# Altium footprint library PcbLib1.PcbLib: 27 footprints (part 2 of 2)
Each footprint in its own frame and in the unit in brackets; x right, y up, seen from the top. Pads: shape width x height; smd on the part's side, far side on the other; paste and mask are expansions set on the pad; w line width, h text height; cw(c..) or ccw(c..) is an arc to the next point about the centre after c.
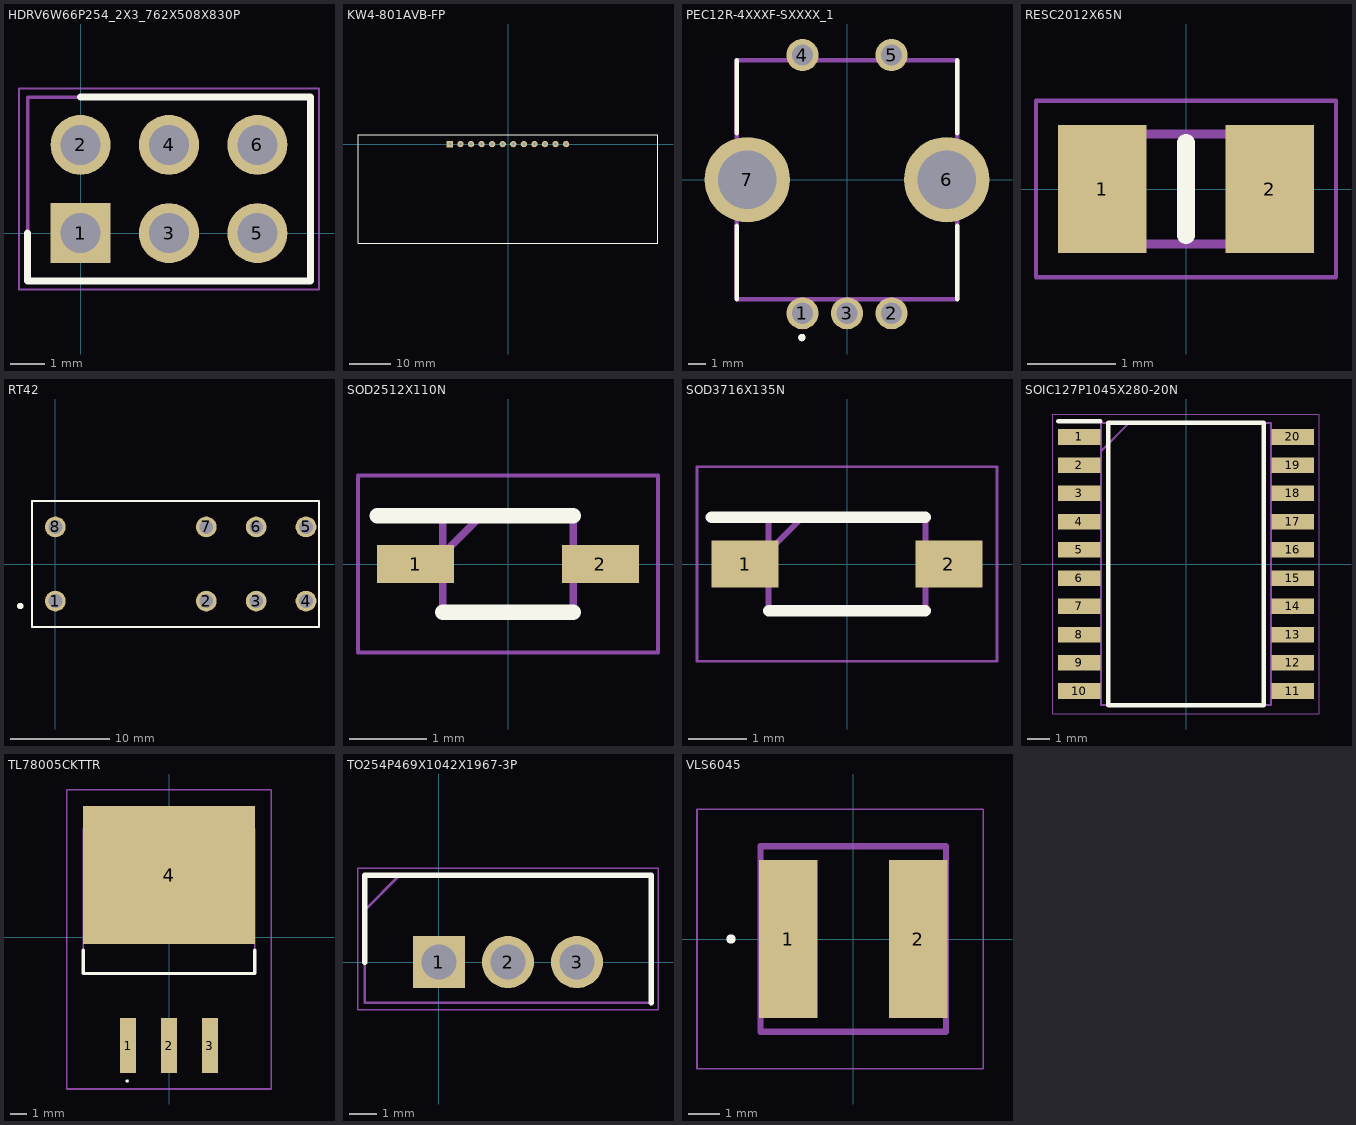
[diagram p1: the footprints below, top view; thin cyan lines are the x and y axes]

## HDRV6W66P254_2X3_762X508X830P [mm]
pads (6):
  rect 1.725x1.725 hole 1.15: 1(0,0)
  round 1.725 hole 1.15: 2(0,2.54) 3(2.54,0) 4(2.54,2.54) 5(5.08,0) 6(5.08,2.54)
Top Overlay:
  lines w0.2: -1.52,0 -1.52,-1.37 6.6,-1.37 6.6,3.91 0,3.91
Mechanical 13:
  lines w0.1: -1.52,-1.37 6.6,-1.37 6.6,3.91 -1.52,3.91 -1.52,-1.37
Mechanical 15:
  lines w0.05: -1.77,-1.62 6.85,-1.62 6.85,4.16 -1.77,4.16 -1.77,-1.62
3D body "M20-9760342.stp": height 8.38, standoff -3.1, extent -1.27,-1.27 6.35,3.81

## KW4-801AVB-FP [mil]
pads (12):
  rect 60x60 hole 30: 1(-550,0)
  round 60 hole 30: 2(-450,0) 3(-350,0) 4(-250,0) 5(-150,0) 6(-50,0) 7(50,0) 8(150,0) 9(250,0) 10(350,0) 11(450,0) 12(550,0)
Top Overlay:
  lines w10: -1420,-940 -1420,90 1420,90 1420,-940 -1420,-940
3D body: height 334.65, standoff 0, extent -1415,-935 1415,85

## PEC12R-4XXXF-SXXXX_1 [mm]
pads (7):
  round 1.8 hole 1.2: 1(-2.5,-7.5) 2(2.5,-7.5) 3(0,-7.5) 4(-2.5,7) 5(2.5,7)
  round 4.8 hole 3.28: 6(5.6,0) 7(-5.6,0)
Top Overlay:
  circle w0.254: c-2.533,-8.863 r0.082
  lines w0.254: -6.2,-6.7 -6.2,-2.6 ; -6.2,2.6 -6.2,6.7 ; 6.2,-6.7 6.2,-2.6 ; 6.2,2.6 6.2,6.7
Mechanical 13:
  lines w0.254: -6.2,-6.7 6.2,-6.7 6.2,6.7 -6.2,6.7 -6.2,-6.7
3D body "PEC11R-4225F-S0024.stp": height 31.51, standoff -3.69, extent -7.005,-7.751 6.995,7.149

## RESC2012X65N [mm]
pads (2):
  rect 1x1.45 smd: 1(-0.95,0) 2(0.95,0)
Top Overlay:
  lines w0.2: 0,-0.525 0,0.525
Mechanical 13:
  lines w0.1: -1,-0.625 1,-0.625 1,0.625 -1,0.625 -1,-0.625
Mechanical 15:
  lines w0.05: -1.7,-1 1.7,-1 1.7,1 -1.7,1 -1.7,-1
3D body "CPF0805B100RE1.stp": height 0.65, standoff 0, extent -1,-0.625 1,0.625

## RT42 [mm]
pads (8):
  round 2.1 hole 1.4: 1(0,-3.75) 2(15.26,-3.75) 3(20.3,-3.75) 4(25.34,-3.75) 5(25.34,3.75) 6(20.3,3.75) 7(15.26,3.75) 8(0,3.75)
Top Overlay:
  circle w0.4: c-3.547,-4.246 r0.126
  lines w0.2: -2.35,-6.35 26.65,-6.35 26.65,6.35 -2.35,6.35 -2.35,-6.35
Mechanical 13:
  lines w0.2: -2.35,-6.35 26.65,-6.35 26.65,6.35 -2.35,6.35 -2.35,-6.35
3D body "RT424005.stp": height 15.86, standoff -2.94, extent -2.21,-6.35 26.79,6.35

## SOD2512X110N [mm]
pads (2):
  rect 1x0.5 smd: 1(-1.2,0) 2(1.2,0)
Top Overlay:
  lines w0.2: -1.7,0.625 0.85,0.625 ; -0.85,-0.625 0.85,-0.625
Mechanical 13:
  lines w0.1: -0.85,0.125 -0.35,0.625 ; -0.85,-0.625 -0.85,0.625 0.85,0.625 0.85,-0.625 -0.85,-0.625
Mechanical 15:
  lines w0.05: -1.95,-1.15 -1.95,1.15 1.95,1.15 1.95,-1.15 -1.95,-1.15
3D body "SMMDL914T1G.stp": height 1.1, standoff 0, extent -1.25,-0.625 1.25,0.625

## SOD3716X135N [mm]
pads (2):
  rect 1.15x0.8 smd: 1(-1.75,0) 2(1.75,0)
Top Overlay:
  lines w0.2: -2.325,0.8 1.345,0.8 ; -1.345,-0.8 1.345,-0.8
Mechanical 13:
  lines w0.1: -1.345,0.225 -0.77,0.8 ; -1.345,-0.8 1.345,-0.8 1.345,0.8 -1.345,0.8 -1.345,-0.8
Mechanical 15:
  lines w0.05: -2.575,-1.67 2.575,-1.67 2.575,1.67 -2.575,1.67 -2.575,-1.67
3D body "MMSZ4689T1G.stp": height 1.35, standoff 0, extent -1.855,-0.8 1.855,0.8

## SOIC127P1045X280-20N [mm]
pads (20):
  rect 1.9x0.7 smd: 1(-4.8,5.715) 2(-4.8,4.445) 3(-4.8,3.175) 4(-4.8,1.905) 5(-4.8,0.635) 6(-4.8,-0.635) 7(-4.8,-1.905) 8(-4.8,-3.175) 9(-4.8,-4.445) 10(-4.8,-5.715) 11(4.8,-5.715) 12(4.8,-4.445) 13(4.8,-3.175) 14(4.8,-1.905) 15(4.8,-0.635) 16(4.8,0.635) 17(4.8,1.905) 18(4.8,3.175) 19(4.8,4.445) 20(4.8,5.715)
Top Overlay:
  lines w0.2: -5.75,6.415 -3.85,6.415 ; -3.5,-6.35 3.5,-6.35 3.5,6.35 -3.5,6.35 -3.5,-6.35
Mechanical 13:
  lines w0.1: -3.825,5.08 -2.555,6.35 ; -3.825,-6.35 3.825,-6.35 3.825,6.35 -3.825,6.35 -3.825,-6.35
Mechanical 15:
  lines w0.05: -6,-6.75 6,-6.75 6,6.75 -6,6.75 -6,-6.75
3D body "TM1637__SOP_.stp": height 2.8, standoff 0, extent -5.225,-6.35 5.225,6.35

## TL78005CKTTR [mm]
pads (4):
  rect 1x3.4 smd: 1(-2.54,-6.745) 2(0,-6.745) 3(2.54,-6.745)
  rect 10.7x8.6 smd: 4(0,3.855)
Top Overlay:
  lines w0.1: -2.6,-9 ccw(c-2.6,-8.95) -2.6,-8.9 ccw(c-2.6,-8.95) -2.6,-9
  lines w0.2: -5.33,-0.8 -5.33,-2.27 5.33,-2.27 5.33,-0.8
Mechanical 13:
  lines w0.1: -5.33,-2.27 5.33,-2.27 5.33,6.745 -5.33,6.745 -5.33,-2.27
Mechanical 15:
  lines w0.1: -6.35,-9.445 6.35,-9.445 6.35,9.155 -6.35,9.155 -6.35,-9.445

## TO254P469X1042X1967-3P [mm]
pads (3):
  rect 1.92x1.92 hole 1.28: 1(0,0)
  round 1.92 hole 1.28: 2(2.54,0) 3(5.08,0)
Top Overlay:
  lines w0.2: -2.73,0 -2.73,3.195 7.81,3.195 7.81,-1.495
Mechanical 13:
  lines w0.1: -2.73,1.925 -1.46,3.195 ; -2.73,-1.495 7.81,-1.495 7.81,3.195 -2.73,3.195 -2.73,-1.495
Mechanical 15:
  lines w0.05: -2.98,-1.745 8.06,-1.745 8.06,3.445 -2.98,3.445 -2.98,-1.745
3D body "IRF9Z34NPBF.stp": height 18.84, standoff -17.51, extent -2.668,-1.495 7.748,3.195

## VLS6045 [mm]
pads (2):
  rect 1.9x5.1 smd: 1(-2.1,0) 2(2.1,0)
Top Overlay:
  circle w0.2: c-3.95,0 r0.05
Mechanical 13:
  lines w0.2: -3,-3 -3,3 3,3 3,-3 -3,-3
Mechanical 15:
  lines w0.05: -5.05,-4.2 -5.05,4.2 4.2,4.2 4.2,-4.2 -5.05,-4.2
3D body "VLS6045EX-100M-H.stp": height 4.5, standoff 0.01, extent -3.15,-3 3.15,3